# EAGLE library part ET60S-02-24-02-X-VP-GP (library ET60S-02-24-02-X-VP-GP)
VERTICAL SOCKET ET60 POWER ASSEM.
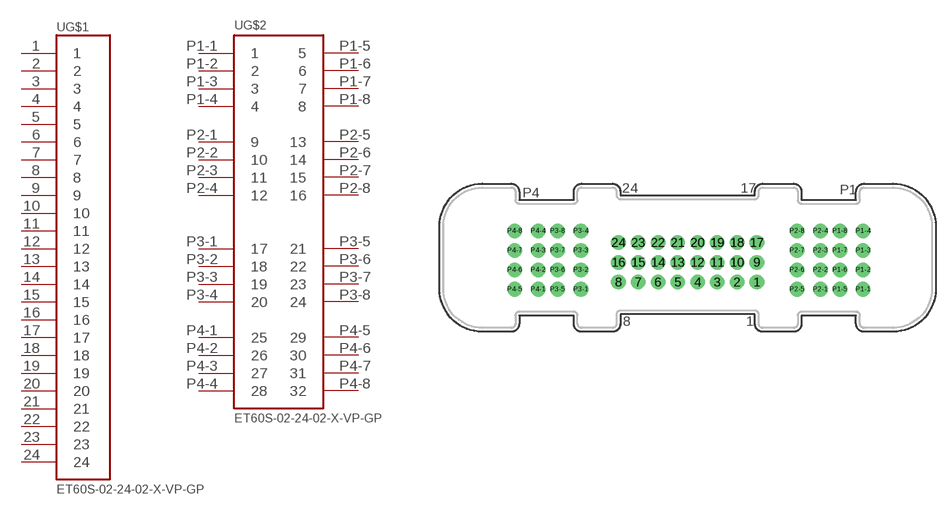
[diagram p0: symbol with the pads of ET60S-02-24-02-X-VP-GP; footprint ET60S-02-24-02-X-VP-GP]

Designator prefix -; gates G$1=ET60S-02-24-02-X-VP-GP-A G$2=ET60S-02-24-02-X-VP-GP-B

## ET60S-02-24-02-X-VP-GP  [ET60S-02-24-02-X-VP-GP]
1  G$1:1
2  G$1:2
3  G$1:3
4  G$1:4
5  G$1:5
6  G$1:6
7  G$1:7
8  G$1:8
9  G$1:9
10  G$1:10
11  G$1:11
12  G$1:12
13  G$1:13
14  G$1:14
15  G$1:15
16  G$1:16
17  G$1:17
18  G$1:18
19  G$1:19
20  G$1:20
21  G$1:21
22  G$1:22
23  G$1:23
24  G$1:24
P1-1  G$2:1
P1-2  G$2:2
P1-3  G$2:3
P1-4  G$2:4
P1-5  G$2:5
P1-6  G$2:6
P1-7  G$2:7
P1-8  G$2:8
P2-1  G$2:9
P2-2  G$2:10
P2-3  G$2:11
P2-4  G$2:12
P2-5  G$2:13
P2-6  G$2:14
P2-7  G$2:15
P2-8  G$2:16
P3-1  G$2:17
P3-2  G$2:18
P3-3  G$2:19
P3-4  G$2:20
P3-5  G$2:21
P3-6  G$2:22
P3-7  G$2:23
P3-8  G$2:24
P4-1  G$2:25
P4-2  G$2:26
P4-3  G$2:27
P4-4  G$2:28
P4-5  G$2:29
P4-6  G$2:30
P4-7  G$2:31
P4-8  G$2:32

## Footprint ET60S-02-24-02-X-VP-GP (pad centres in mm)
VERTICAL SOCKET ET60 POWER ASSEM.
drill 1.02 pad 1.87: 1 8.89,-2.84; 2 6.35,-2.84; 3 3.81,-2.84; 4 1.27,-2.84; 5 -1.27,-2.84; 6 -3.81,-2.84; 7 -6.35,-2.84; 8 -8.89,-2.84; 9 8.89,-0.3; 10 6.35,-0.3; 11 3.81,-0.3; 12 1.27,-0.3; 13 -1.27,-0.3; 14 -3.81,-0.3; 15 -6.35,-0.3; 16 -8.89,-0.3; 17 8.89,2.24; 18 6.35,2.24; 19 3.81,2.24; 20 1.27,2.24; 21 -1.27,2.24; 22 -3.81,2.24; 23 -6.35,2.24; 24 -8.89,2.24; P1-1 22.56,-3.75; P1-2 22.56,-1.25; P1-3 22.56,1.25; P1-4 22.56,3.75; P1-5 19.56,-3.75; P1-6 19.56,-1.25; P1-7 19.56,1.25; P1-8 19.56,3.75; P2-1 17.06,-3.75; P2-2 17.06,-1.25; P2-3 17.06,1.25; P2-4 17.06,3.75; P2-5 14.06,-3.75; P2-6 14.06,-1.25; P2-7 14.06,1.25; P2-8 14.06,3.75; P3-1 -13.7,-3.75; P3-2 -13.7,-1.25; P3-3 -13.7,1.25; P3-4 -13.7,3.75; P3-5 -16.7,-3.75; P3-6 -16.7,-1.25; P3-7 -16.7,1.25; P3-8 -16.7,3.75; P4-1 -19.2,-3.75; P4-2 -19.2,-1.25; P4-3 -19.2,1.25; P4-4 -19.2,3.75; P4-5 -22.2,-3.75; P4-6 -22.2,-1.25; P4-7 -22.2,1.25; P4-8 -22.2,3.75